# Altium schematic symbol library Sch_Infineon.SchLib: 2 symbols
Pins are listed as number, name and electrical type; pins without a type are passive.

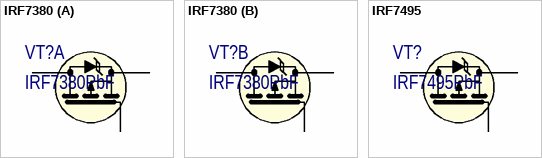
[diagram p0: symbols IRF7380 to IRF7495]

## IRF7380
designator VT?, comment IRF7380PbF
HEXFET Power MOSFET; Manufacturer: Infineon; Part Number: IRF7380PbF
footprint SOIC-8 (SOIC-8 package)
part A pins: 1 S, 2 G, 7, 8 D
part B pins: 3 S, 4 G, 5, 6 D

## IRF7495
designator VT?, comment IRF7495PbF
HEXFET Power MOSFET; Manufacturer: Infineon; Part Number: IRF7495PbF
footprint SOIC-8 (SOIC-8 package)
pins: 1, 2, 3 S, 4 G, 5, 6, 7, 8 D